# EAGLE library part LFXP6C_XXF256 (library lattice)
lfxp6c_fpbga256 Auto generated by make-symbol-device-package-bsdl.ulp Rev. 20 Source: lfxp6c_fpbga256.bsm
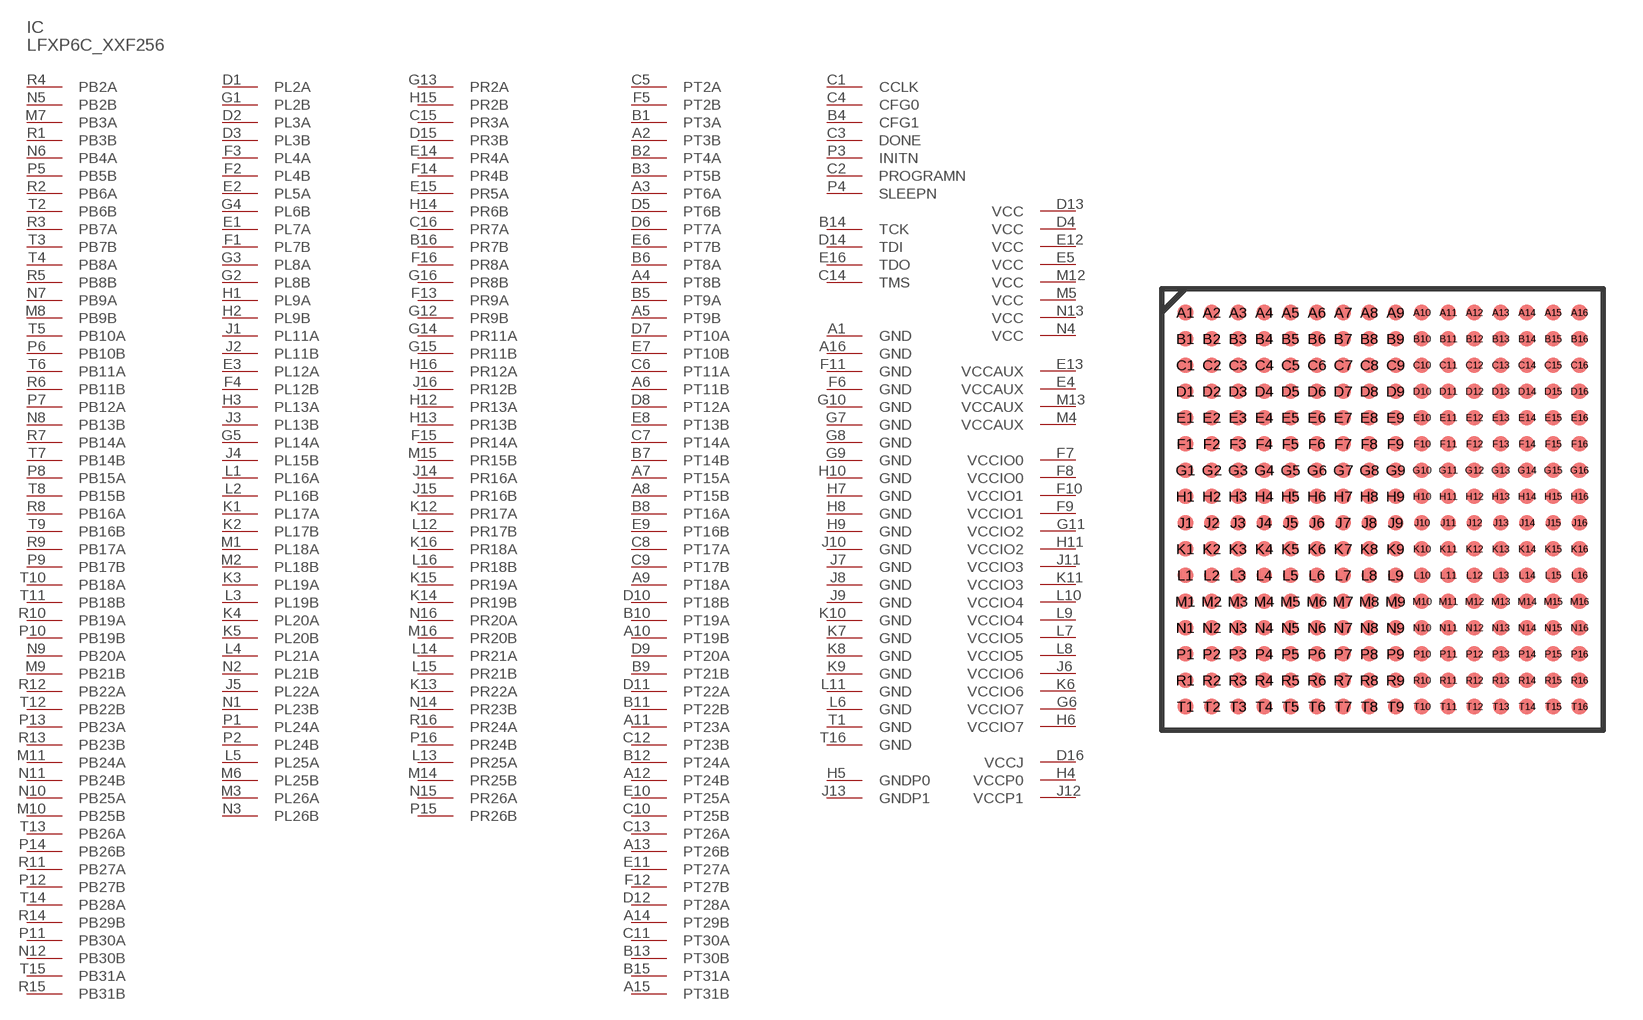
[diagram p10: symbol with the pads of FPBGA_256; footprint FPBGA_256]

Designator prefix IC

## LFXP6C_XXF256  [FPBGA_256]
A1  GND  pwr
A2  PT3B
A3  PT6A
A4  PT8B
A5  PT9B
A6  PT11B
A7  PT15A
A8  PT15B
A9  PT18A
A10  PT19B
A11  PT23A
A12  PT24B
A13  PT26B
A14  PT29B
A15  PT31B
A16  GND  pwr
B1  PT3A
B2  PT4A
B3  PT5B
B4  CFG1  in
B5  PT9A
B6  PT8A
B7  PT14B
B8  PT16A
B9  PT21B
B10  PT19A
B11  PT22B
B12  PT24A
B13  PT30B
B14  TCK  in
B15  PT31A
B16  PR7B
C1  CCLK
C2  PROGRAMN  in
C3  DONE
C4  CFG0  in
C5  PT2A
C6  PT11A
C7  PT14A
C8  PT17A
C9  PT17B
C10  PT25B
C11  PT30A
C12  PT23B
C13  PT26A
C14  TMS  in
C15  PR3A
C16  PR7A
D1  PL2A
D2  PL3A
D3  PL3B
D4  VCC  pwr
D5  PT6B
D6  PT7A
D7  PT10A
D8  PT12A
D9  PT20A
D10  PT18B
D11  PT22A
D12  PT28A
D13  VCC  pwr
D14  TDI  in
D15  PR3B
D16  VCCJ  pwr
E1  PL7A
E2  PL5A
E3  PL12A
E4  VCCAUX  pwr
E5  VCC  pwr
E6  PT7B
E7  PT10B
E8  PT13B
E9  PT16B
E10  PT25A
E11  PT27A
E12  VCC  pwr
E13  VCCAUX  pwr
E14  PR4A
E15  PR5A
E16  TDO  out
F1  PL7B
F2  PL4B
F3  PL4A
F4  PL12B
F5  PT2B
F6  GND  pwr
F7  VCCIO0  pwr
F8  VCCIO0  pwr
F9  VCCIO1  pwr
F10  VCCIO1  pwr
F11  GND  pwr
F12  PT27B
F13  PR9A
F14  PR4B
F15  PR14A
F16  PR8A
G1  PL2B
G2  PL8B
G3  PL8A
G4  PL6B
G5  PL14A
G6  VCCIO7  pwr
G7  GND  pwr
G8  GND  pwr
G9  GND  pwr
G10  GND  pwr
G11  VCCIO2  pwr
G12  PR9B
G13  PR2A
G14  PR11A
G15  PR11B
G16  PR8B
H1  PL9A
H2  PL9B
H3  PL13A
H4  VCCP0  pwr
H5  GNDP0  pwr
H6  VCCIO7  pwr
H7  GND  pwr
H8  GND  pwr
H9  GND  pwr
H10  GND  pwr
H11  VCCIO2  pwr
H12  PR13A
H13  PR13B
H14  PR6B
H15  PR2B
H16  PR12A
J1  PL11A
J2  PL11B
J3  PL13B
J4  PL15B
J5  PL22A
J6  VCCIO6  pwr
J7  GND  pwr
J8  GND  pwr
J9  GND  pwr
J10  GND  pwr
J11  VCCIO3  pwr
J12  VCCP1  pwr
J13  GNDP1  pwr
J14  PR16A
J15  PR16B
J16  PR12B
K1  PL17A
K2  PL17B
K3  PL19A
K4  PL20A
K5  PL20B
K6  VCCIO6  pwr
K7  GND  pwr
K8  GND  pwr
K9  GND  pwr
K10  GND  pwr
K11  VCCIO3  pwr
K12  PR17A
K13  PR22A
K14  PR19B
K15  PR19A
K16  PR18A
L1  PL16A
L2  PL16B
L3  PL19B
L4  PL21A
L5  PL25A
L6  GND  pwr
L7  VCCIO5  pwr
L8  VCCIO5  pwr
L9  VCCIO4  pwr
L10  VCCIO4  pwr
L11  GND  pwr
L12  PR17B
L13  PR25A
L14  PR21A
L15  PR21B
L16  PR18B
M1  PL18A
M2  PL18B
M3  PL26A
M4  VCCAUX  pwr
M5  VCC  pwr
M6  PL25B
M7  PB3A
M8  PB9B
M9  PB21B
M10  PB25B
M11  PB24A
M12  VCC  pwr
M13  VCCAUX  pwr
M14  PR25B
M15  PR15B
M16  PR20B
N1  PL23B
N2  PL21B
N3  PL26B
N4  VCC  pwr
N5  PB2B
N6  PB4A
N7  PB9A
N8  PB13B
N9  PB20A
N10  PB25A
N11  PB24B
N12  PB30B
N13  VCC  pwr
N14  PR23B
N15  PR26A
N16  PR20A
P1  PL24A
P2  PL24B
P3  INITN
P4  SLEEPN  in
P5  PB5B
P6  PB10B
P7  PB12A
P8  PB15A
P9  PB17B
P10  PB19B
P11  PB30A
P12  PB27B
P13  PB23A
P14  PB26B
P15  PR26B
P16  PR24B
R1  PB3B
R2  PB6A
R3  PB7A
R4  PB2A
R5  PB8B
R6  PB11B
R7  PB14A
R8  PB16A
R9  PB17A
R10  PB19A
R11  PB27A
R12  PB22A
R13  PB23B
R14  PB29B
R15  PB31B
R16  PR24A
T1  GND  pwr
T2  PB6B
T3  PB7B
T4  PB8A
T5  PB10A
T6  PB11A
T7  PB14B
T8  PB15B
T9  PB16B
T10  PB18A
T11  PB18B
T12  PB22B
T13  PB26A
T14  PB28A
T15  PB31A
T16  GND  pwr

## Footprint FPBGA_256 (pad centres in mm)
FPBGA 256 Auto generated by make-symbol-device-package-bsdl.ulp Rev. 19 Source: lfxp6c_fpbga256.bsm; http://www.latticesemi.com/lit/docs/package/pkg.pdf
smd 0.6 x 0.6: A1 -7.5,7.5; A2 -6.5,7.5; A3 -5.5,7.5; A4 -4.5,7.5; A5 -3.5,7.5; A6 -2.5,7.5; A7 -1.5,7.5; A8 -0.5,7.5; A9 0.5,7.5; A10 1.5,7.5; A11 2.5,7.5; A12 3.5,7.5; A13 4.5,7.5; A14 5.5,7.5; A15 6.5,7.5; A16 7.5,7.5; B1 -7.5,6.5; B2 -6.5,6.5; B3 -5.5,6.5; B4 -4.5,6.5; B5 -3.5,6.5; B6 -2.5,6.5; B7 -1.5,6.5; B8 -0.5,6.5; B9 0.5,6.5; B10 1.5,6.5; B11 2.5,6.5; B12 3.5,6.5; B13 4.5,6.5; B14 5.5,6.5; B15 6.5,6.5; B16 7.5,6.5; C1 -7.5,5.5; C2 -6.5,5.5; C3 -5.5,5.5; C4 -4.5,5.5; C5 -3.5,5.5; C6 -2.5,5.5; C7 -1.5,5.5; C8 -0.5,5.5; C9 0.5,5.5; C10 1.5,5.5; C11 2.5,5.5; C12 3.5,5.5; C13 4.5,5.5; C14 5.5,5.5; C15 6.5,5.5; C16 7.5,5.5; D1 -7.5,4.5; D2 -6.5,4.5; D3 -5.5,4.5; D4 -4.5,4.5; D5 -3.5,4.5; D6 -2.5,4.5; D7 -1.5,4.5; D8 -0.5,4.5; D9 0.5,4.5; D10 1.5,4.5; D11 2.5,4.5; D12 3.5,4.5; D13 4.5,4.5; D14 5.5,4.5; D15 6.5,4.5; D16 7.5,4.5; E1 -7.5,3.5; E2 -6.5,3.5; E3 -5.5,3.5; E4 -4.5,3.5; E5 -3.5,3.5; E6 -2.5,3.5; E7 -1.5,3.5; E8 -0.5,3.5; E9 0.5,3.5; E10 1.5,3.5; E11 2.5,3.5; E12 3.5,3.5; E13 4.5,3.5; E14 5.5,3.5; E15 6.5,3.5; E16 7.5,3.5; F1 -7.5,2.5; F2 -6.5,2.5; F3 -5.5,2.5; F4 -4.5,2.5; F5 -3.5,2.5; F6 -2.5,2.5; F7 -1.5,2.5; F8 -0.5,2.5; F9 0.5,2.5; F10 1.5,2.5; F11 2.5,2.5; F12 3.5,2.5; F13 4.5,2.5; F14 5.5,2.5; F15 6.5,2.5; F16 7.5,2.5; G1 -7.5,1.5; G2 -6.5,1.5; G3 -5.5,1.5; G4 -4.5,1.5; G5 -3.5,1.5; G6 -2.5,1.5; G7 -1.5,1.5; G8 -0.5,1.5; G9 0.5,1.5; G10 1.5,1.5; G11 2.5,1.5; G12 3.5,1.5; G13 4.5,1.5; G14 5.5,1.5; G15 6.5,1.5; G16 7.5,1.5; H1 -7.5,0.5; H2 -6.5,0.5; H3 -5.5,0.5; H4 -4.5,0.5; H5 -3.5,0.5; H6 -2.5,0.5; H7 -1.5,0.5; H8 -0.5,0.5; H9 0.5,0.5; H10 1.5,0.5; H11 2.5,0.5; H12 3.5,0.5; H13 4.5,0.5; H14 5.5,0.5; H15 6.5,0.5; H16 7.5,0.5; J1 -7.5,-0.5; J2 -6.5,-0.5; J3 -5.5,-0.5; J4 -4.5,-0.5; J5 -3.5,-0.5; J6 -2.5,-0.5; J7 -1.5,-0.5; J8 -0.5,-0.5; J9 0.5,-0.5; J10 1.5,-0.5; J11 2.5,-0.5; J12 3.5,-0.5; J13 4.5,-0.5; J14 5.5,-0.5; J15 6.5,-0.5; J16 7.5,-0.5; K1 -7.5,-1.5; K2 -6.5,-1.5; K3 -5.5,-1.5; K4 -4.5,-1.5; K5 -3.5,-1.5; K6 -2.5,-1.5; K7 -1.5,-1.5; K8 -0.5,-1.5; K9 0.5,-1.5; K10 1.5,-1.5; K11 2.5,-1.5; K12 3.5,-1.5; K13 4.5,-1.5; K14 5.5,-1.5; K15 6.5,-1.5; K16 7.5,-1.5; L1 -7.5,-2.5; L2 -6.5,-2.5; L3 -5.5,-2.5; L4 -4.5,-2.5; L5 -3.5,-2.5; L6 -2.5,-2.5; L7 -1.5,-2.5; L8 -0.5,-2.5; L9 0.5,-2.5; L10 1.5,-2.5; L11 2.5,-2.5; L12 3.5,-2.5; L13 4.5,-2.5; L14 5.5,-2.5; L15 6.5,-2.5; L16 7.5,-2.5; M1 -7.5,-3.5; M2 -6.5,-3.5; M3 -5.5,-3.5; M4 -4.5,-3.5; M5 -3.5,-3.5; M6 -2.5,-3.5; M7 -1.5,-3.5; M8 -0.5,-3.5; M9 0.5,-3.5; M10 1.5,-3.5; M11 2.5,-3.5; M12 3.5,-3.5; M13 4.5,-3.5; M14 5.5,-3.5; M15 6.5,-3.5; M16 7.5,-3.5; N1 -7.5,-4.5; N2 -6.5,-4.5; N3 -5.5,-4.5; N4 -4.5,-4.5; N5 -3.5,-4.5; N6 -2.5,-4.5; N7 -1.5,-4.5; N8 -0.5,-4.5; N9 0.5,-4.5; N10 1.5,-4.5; N11 2.5,-4.5; N12 3.5,-4.5; N13 4.5,-4.5; N14 5.5,-4.5; N15 6.5,-4.5; N16 7.5,-4.5; P1 -7.5,-5.5; P2 -6.5,-5.5; P3 -5.5,-5.5; P4 -4.5,-5.5; P5 -3.5,-5.5; P6 -2.5,-5.5; P7 -1.5,-5.5; P8 -0.5,-5.5; P9 0.5,-5.5; P10 1.5,-5.5; P11 2.5,-5.5; P12 3.5,-5.5; P13 4.5,-5.5; P14 5.5,-5.5; P15 6.5,-5.5; P16 7.5,-5.5; R1 -7.5,-6.5; R2 -6.5,-6.5; R3 -5.5,-6.5; R4 -4.5,-6.5; R5 -3.5,-6.5; R6 -2.5,-6.5; R7 -1.5,-6.5; R8 -0.5,-6.5; R9 0.5,-6.5; R10 1.5,-6.5; R11 2.5,-6.5; R12 3.5,-6.5; R13 4.5,-6.5; R14 5.5,-6.5; R15 6.5,-6.5; R16 7.5,-6.5; T1 -7.5,-7.5; T2 -6.5,-7.5; T3 -5.5,-7.5; T4 -4.5,-7.5; T5 -3.5,-7.5; T6 -2.5,-7.5; T7 -1.5,-7.5; T8 -0.5,-7.5; T9 0.5,-7.5; T10 1.5,-7.5; T11 2.5,-7.5; T12 3.5,-7.5; T13 4.5,-7.5; T14 5.5,-7.5; T15 6.5,-7.5; T16 7.5,-7.5